# Altium footprint library Diode.PcbLib: 5 footprints
Each footprint in its own frame and in the unit in brackets; x right, y up, seen from the top. Pads: shape width x height; smd on the part's side, far side on the other; paste and mask are expansions set on the pad; w line width, h text height; cw(c..) or ccw(c..) is an arc to the next point about the centre after c.
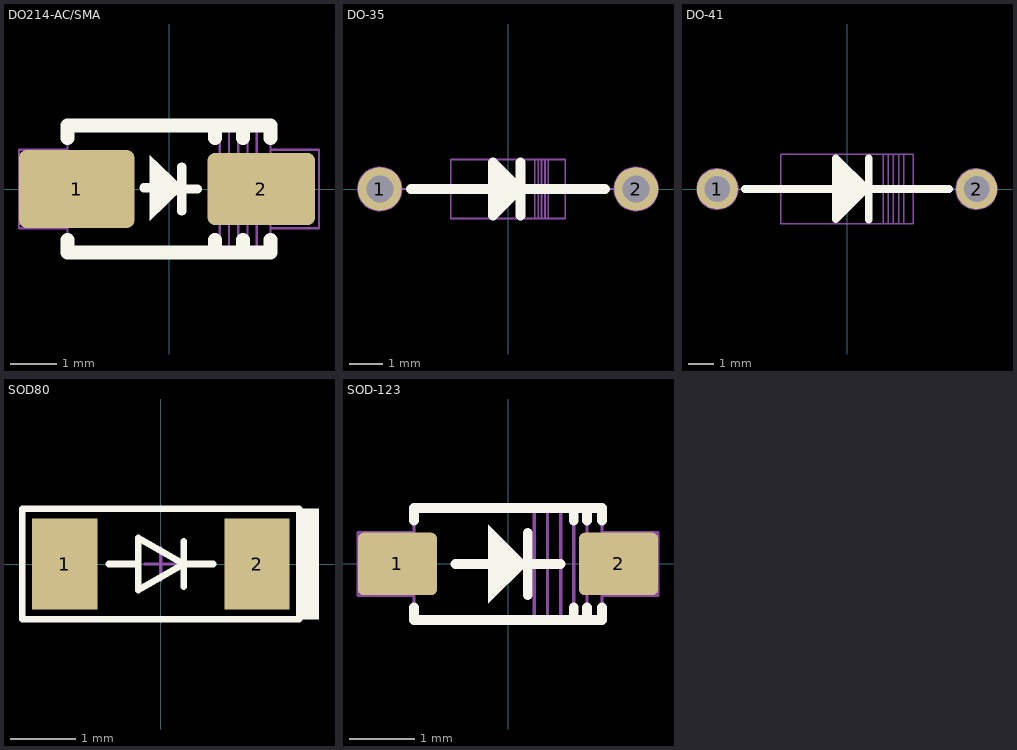
[diagram p0: the footprints below, top view; thin cyan lines are the x and y axes]

## DO214-AC/SMA [mm] "DO214-AC"
height 2.65
pads (2):
  rrect20% 2.5x1.7 smd: 1(-2,0)
  rrect20% 2.33x1.56 smd: 2(2,0)
Top Overlay:
  region: -0.418,0.736 -0.418,-0.686 0.32,0.025
  lines w0.2: -0.543,0.025 -0.418,0.025 ; 0.02,0 0.62,0 ; 0.276,-0.475 0.276,0.475
  lines w0.3: -2.2,-1.1 -2.2,-1.375 2.2,-1.375 2.2,-1.1 ; -2.2,1.1 -2.2,1.375 2.2,1.375 2.2,1.1 ; 1,-1.375 1,-1.1 ; 1,1.1 1,1.375 ; 1.6,-1.375 1.6,-1.1 ; 1.6,1.1 1.6,1.375
Top HCB:
  lines w0.05: -2.2,-0.85 -3.25,-0.85 -3.25,0.85 -2.2,0.85 ; -0.25,0 0.25,0 ; 0,-0.25 0,0.25 ; 1.1,-1.375 1.1,1.375 ; 1.3,-1.375 1.3,1.375 ; 1.5,-1.375 1.5,1.375 ; 1.7,-1.375 1.7,1.375 ; 1.9,-1.375 1.9,1.375 ; 2.2,-0.85 3.25,-0.85 3.25,0.85 2.2,0.85 ; -2.2,-1.375 2.2,-1.375 2.2,1.375 -2.2,1.375 -2.2,-1.375
  text "A" at -2.999,-0.32 h1
  text "K" at 2.435,-0.32 h1
3D body "User Library-DO-214AC SMA.STEP": height 2.4, standoff 0, extent -2.46,-1.3 2.74,1.3

## DO-35 [mm] "DO-204AH"
height 1.75
pads (2):
  round 1.3 hole 0.8 mask+0.1: 1(-3.81,0)
  round 1.3 hole 0.8: 2(3.81,0)
Top Overlay:
  region: -0.452,0.786 -0.452,-0.786 0.334,0
  lines w0.3: -2.88,0 2.89,0 ; 0.373,-0.786 0.373,0.786 ; -0.452,-0.786 -0.452,0.786 0.334,0 -0.452,-0.786
Top HCB:
  circle w0.05: c3.81,0 r0.65
  circle w0.05: c-3.81,0 r0.65
  lines w0.05: -3.16,0 -1.71,0 ; -0.25,0 0.25,0 ; 0,-0.25 0,0.25 ; 0.798,-0.875 0.798,0.875 ; 0.898,-0.875 0.898,0.875 ; 0.998,-0.875 0.998,0.875 ; 1.098,-0.875 1.098,0.875 ; 1.698,-0.875 1.698,0.875 ; 1.7,-0.875 -1.7,-0.875 -1.7,0.875 1.7,0.875 ; 1.7,0 3.16,0 ; 1.198,-0.875 1.198,0.875 1.198,-0.875
  text "A" at -4.01,-0.3 h0.8
  text "K" at 3.69,-0.3 h0.8
3D body "User Library-1n4148-1.step": height 2.5, standoff -4, extent -3.75,-1 3.75,1

## DO-41 [mm] "Diode_DIP"
height 2.72
pads (2):
  round 1.6 hole 1 mask+0.1: 1(-5.08,0) 2(5.08,0)
Top Overlay:
  region: -0.44,1.21 -0.44,-1.18 -0.41,-1.18 0.77,0
  lines w0.3: -4,0 4,0 ; 0.74,0 -0.44,-1.18 -0.44,1.21 0.77,0 0.84,0 ; 0.85,-1.2 0.85,1.21
Top HCB:
  circle w0.05: c5.08,0 r0.8
  circle w0.05: c-5.08,0 r0.8
  lines w0.05: -4.28,0 -2.605,0 ; -0.25,0 0.25,0 ; 0,-0.25 0,0.25 ; 1.42,-1.36 1.42,1.36 ; 1.62,1.36 1.62,-1.36 1.82,-1.36 1.82,1.36 ; 2.02,-1.36 2.02,1.36 ; 2.22,-1.36 2.22,1.36 ; 2.605,0 4.27,0 ; -2.605,-1.36 -2.605,1.36 2.605,1.36 2.605,-1.36 -2.605,-1.36
  text "A" at -5.379,-0.32 h1
  text "K" at 4.815,-0.32 h1
3D body "User Library-1n4007-1.step": height 2.75, standoff -4, extent -5.8,-1.25 5.8,1.25

## SOD80 [mm] "Diodes - General Purpose - SOD80C"
height 1.45
pads (2):
  rect 1x1.4 smd: 1(-1.475,0) 2(1.475,0)
Top Overlay:
  rectangle: 2.125,-0.85 2.425,0.85
  lines w0.1: -0.8,0 -0.35,0 ; 0.35,-0.35 0.35,0.35 ; 0.8,0 0.35,0 ; 0.35,0 -0.35,0.4 -0.35,-0.4 0.35,0 ; -2.125,-0.85 -2.125,0.85 2.125,0.85 2.125,-0.85 -2.125,-0.85
Top HCB:
  lines w0.05: -0.25,0 0.25,0 ; 0,-0.25 0,0.25
3D body "User Library-smd diode 1206.STEP": height 1.43, standoff -0.02, extent -1.74,-0.72 1.76,0.73

## SOD-123 [mm]
height 1.35
pads (2):
  rrect18% 1.2x0.95 smd mask+0.1: 1(-1.68,0) 2(1.68,0)
Top Overlay:
  region: -0.3,0.599 0.3,0 -0.3,-0.6
  lines w0.15: -1.43,-0.85 -1.43,-0.663 ; -1.43,-0.85 1.425,-0.85 ; -1.43,0.663 -1.43,0.85 1.425,0.85 ; -0.8,0 -0.3,0 ; 0.3,-0.475 0.3,0.475 ; 0.3,0 0.8,0 ; 1,-0.85 1,-0.663 ; 1,0.663 1,0.85 ; 1.2,-0.85 1.2,-0.663 ; 1.2,0.663 1.2,0.85 ; 1.429,-0.85 1.429,-0.663 ; 1.429,0.663 1.429,0.85
Top HCB:
  lines w0.05: -1.43,-0.475 -2.28,-0.475 -2.28,0.475 -1.43,0.475 ; -0.25,0 0.25,0 ; 0,-0.25 0,0.25 ; 0.4,-0.85 0.4,0.85 ; 0.6,-0.85 0.6,0.85 ; 0.8,-0.85 0.8,0.85 1,0.85 1,-0.85 1.2,-0.85 1.2,0.85 ; 1.43,-0.475 2.28,-0.475 2.28,0.475 1.43,0.475 ; -1.43,0.475 -1.43,0.85 1.43,0.85 1.43,-0.85 -1.43,-0.85 -1.43,0.475
  text "K" at 1.635,-0.32 h1
  text "A" at -2.199,-0.32 h1
3D body "User Library-SOD-123.STEP": height 1.25, standoff 0, extent -1.849,-0.8 1.849,0.8